# EAGLE library part ACTION (library dualshock-button-pads)
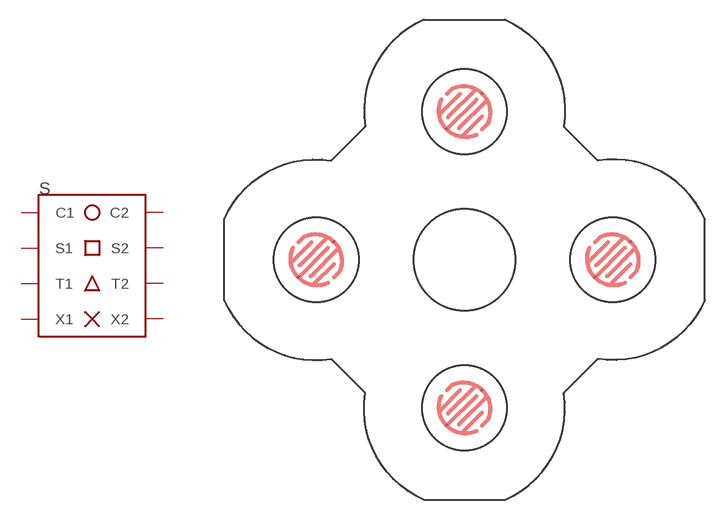
[diagram p1: symbol with the pads of ACTION_V4; footprint ACTION_V4]

Designator prefix S

## ACTIONV4  [ACTION_V4]
C1  C1
C2  C2
S1  S1
S2  S2
T1  T1
T2  T2
X1  X1
X2  X2

## Footprint ACTION_V4 (pad centres in mm)
smd 0.2 x 0.2 rotated 45: C1 10.006,-1.343; C2 12.694,1.343; S1 -12.694,-1.343; S2 -10.006,1.343; T1 -1.343,10.006; T2 1.343,12.694; X1 -1.343,-12.694; X2 1.343,-10.006